# EAGLE library part ESP-12S (library FlashPCB_ICs)
ESP-12S - Self Contained 802.11b/g/n ESP Wifi Module featuring the ESP8266 SOC Technical Specifications: 802.11 b/g/n Wi-Fi 2.4GHz, WPA/WPA2 SDIO 2.0, SPI, UART, 12C, 12S, IRDA, PWM, GPIO Wake-up time: under 2ms Component Search: ESP-12S <https://www.flashpcb.com/components> Datasheet: ESP WIFI Module <https://www.rfsolutions.co.uk/downloads/6253e9e3cab0d503DS-ESP12S-1.pdf>
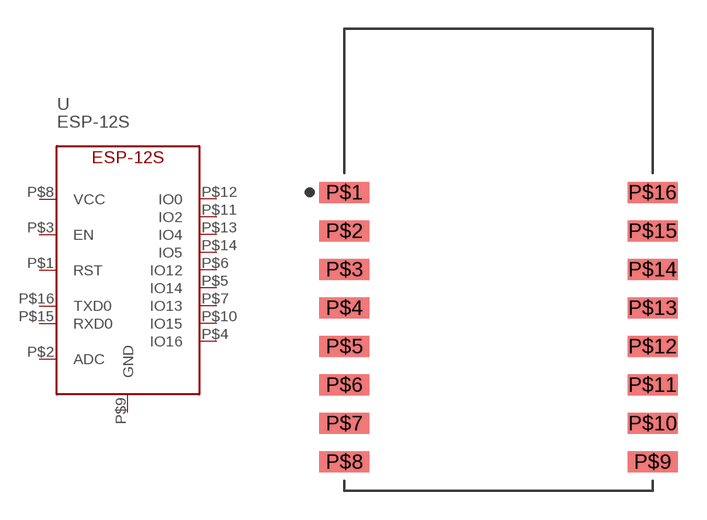
[diagram p44: symbol with the pads of ESP-12S; footprint ESP-12S]

Designator prefix U

## ESP-12S  [ESP-12S]
P$1  RST
P$2  ADC
P$3  EN
P$4  IO16
P$5  IO14
P$6  IO12
P$7  IO13
P$8  VCC
P$9  GND
P$10  IO15
P$11  IO2
P$12  IO0
P$13  IO4
P$14  IO5
P$15  RXD0
P$16  TXD0

## Footprint ESP-12S (pad centres in mm)
smd 2.6 x 1.1: P$1 -8,7; P$2 -8,5; P$3 -8,3; P$4 -8,1; P$5 -8,-1; P$6 -8,-3; P$7 -8,-5; P$8 -8,-7; P$9 8,-7; P$10 8,-5; P$11 8,-3; P$12 8,-1; P$13 8,1; P$14 8,3; P$15 8,5; P$16 8,7